# Altium schematic symbol library TRANSFORMER.SchLib: 2 symbols
Pins are listed as number, name and electrical type; pins without a type are passive.

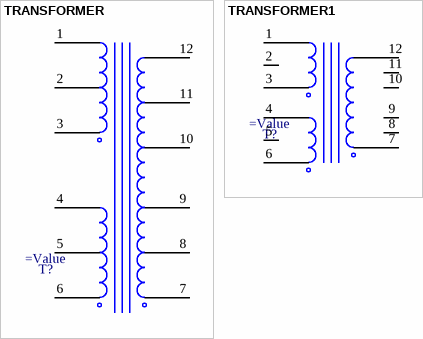
[diagram p0: symbols TRANSFORMER to TRANSFORMER1]

## TRANSFORMER
designator T?
=Description
pins: 1, 2, 3, 4, 5, 6, 7, 8, 9, 10, 11, 12

## TRANSFORMER1
designator T?
=Description
pins: 1, 2, 3, 4, 5, 6, 7, 8, 9, 10, 11, 12